# Altium footprint library VishayG.PcbLib: 1 footprints
Each footprint in its own frame and in the unit in brackets; x right, y up, seen from the top. Pads: shape width x height; smd on the part's side, far side on the other; paste and mask are expansions set on the pad; w line width, h text height; cw(c..) or ccw(c..) is an arc to the next point about the centre after c.
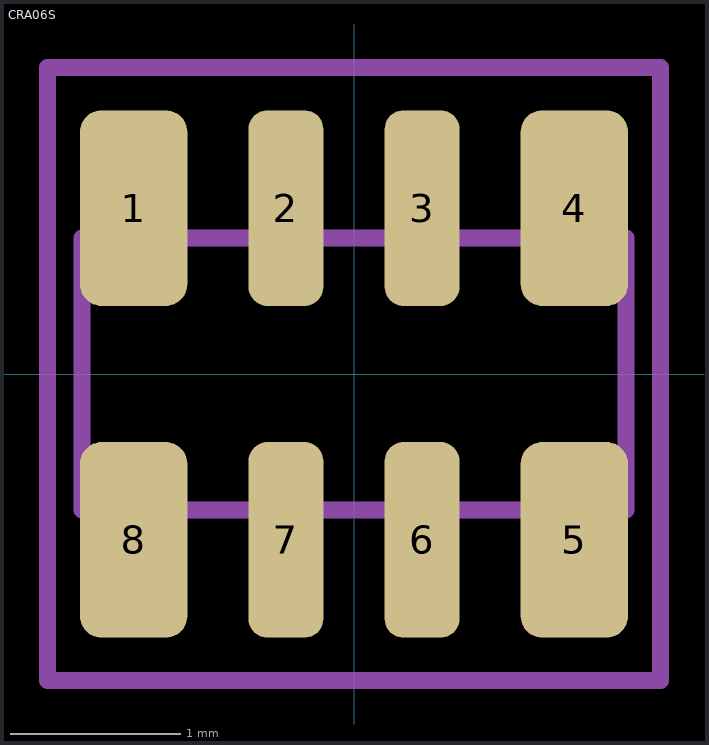
[diagram p0: the footprint, top view; thin cyan lines are the x and y axes]

## CRA06S [mm]
height 0.5
pads (8):
  rrect40% 0.63x1.15 smd paste-0.05 mask+0: 1(-1.295,0.975) 4(1.295,0.975) 5(1.295,-0.975) 8(-1.295,-0.975)
  rrect50% 0.44x1.15 smd mask+0: 2(-0.4,0.975) 3(0.4,0.975) 6(0.4,-0.975) 7(-0.4,-0.975)
Assembly:
  lines w0.1: -1.6,-0.8 1.6,-0.8 1.6,0.8 -1.6,0.8 -1.6,-0.8
Courtyard:
  lines w0.1: -1.8,-1.8 1.8,-1.8 1.8,1.8 -1.8,1.8 -1.8,-1.8
3D body: height 0.5, standoff 0, extent -1.6,-0.8 1.6,0.8